# Altium schematic symbol library SCH - MCU - SI LABS - SI LABS EFR32FG23A010F128GM40 40-PIN QFN 5X5.SchLib: 1 symbol
Pins are listed as number, name and electrical type; pins without a type are passive.

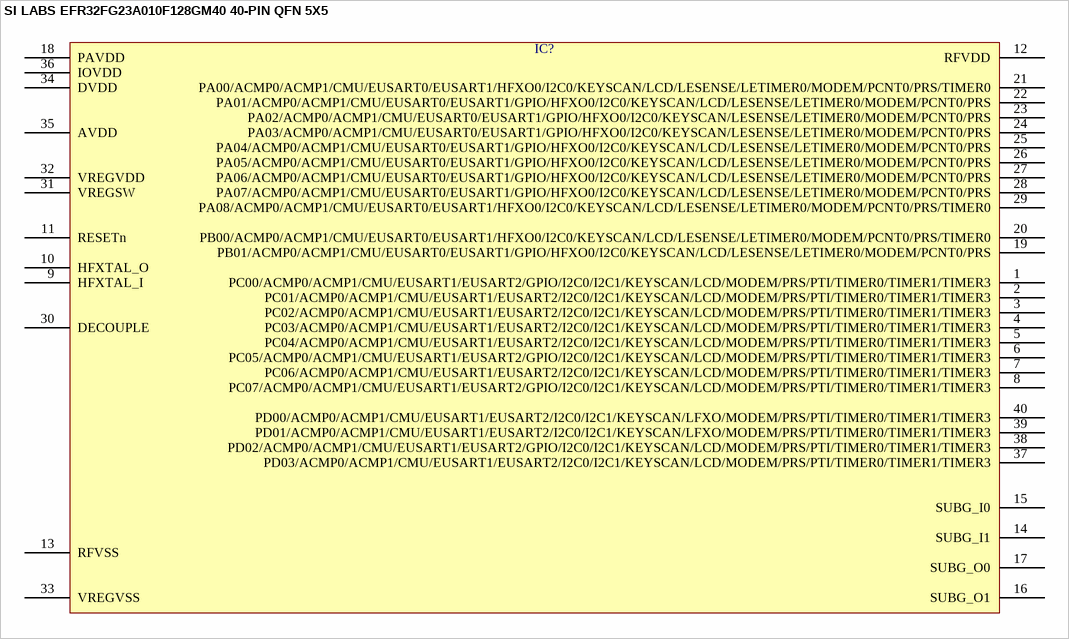
[diagram p0: symbol SI LABS EFR32FG23A010F128GM40 40-PIN QFN 5X5]

## SI LABS EFR32FG23A010F128GM40 40-PIN QFN 5X5
designator IC?  (value not drawn)
pins: 1 PC00/ACMP0/ACMP1/CMU/EUSART1/EUSART2/GPIO/I2C0/I2C1/KEYSCAN/LCD/MODEM/PRS/PTI/TIMER0/TIMER1/TIMER3, 2 PC01/ACMP0/ACMP1/CMU/EUSART1/EUSART2/I2C0/I2C1/KEYSCAN/LCD/MODEM/PRS/PTI/TIMER0/TIMER1/TIMER3, 3 PC02/ACMP0/ACMP1/CMU/EUSART1/EUSART2/I2C0/I2C1/KEYSCAN/LCD/MODEM/PRS/PTI/TIMER0/TIMER1/TIMER3, 4 PC03/ACMP0/ACMP1/CMU/EUSART1/EUSART2/I2C0/I2C1/KEYSCAN/LCD/MODEM/PRS/PTI/TIMER0/TIMER1/TIMER3, 5 PC04/ACMP0/ACMP1/CMU/EUSART1/EUSART2/I2C0/I2C1/KEYSCAN/LCD/MODEM/PRS/PTI/TIMER0/TIMER1/TIMER3, 6 PC05/ACMP0/ACMP1/CMU/EUSART1/EUSART2/GPIO/I2C0/I2C1/KEYSCAN/LCD/MODEM/PRS/PTI/TIMER0/TIMER1/TIMER3, 7 PC06/ACMP0/ACMP1/CMU/EUSART1/EUSART2/I2C0/I2C1/KEYSCAN/LCD/MODEM/PRS/PTI/TIMER0/TIMER1/TIMER3, 8 PC07/ACMP0/ACMP1/CMU/EUSART1/EUSART2/GPIO/I2C0/I2C1/KEYSCAN/LCD/MODEM/PRS/PTI/TIMER0/TIMER1/TIMER3, 9 HFXTAL_I, 10 HFXTAL_O, 11 RESETn, 12 RFVDD, 13 RFVSS, 14 SUBG_I1, 15 SUBG_I0, 16 SUBG_O1, 17 SUBG_O0, 18 PAVDD, 19 PB01/ACMP0/ACMP1/CMU/EUSART0/EUSART1/GPIO/HFXO0/I2C0/KEYSCAN/LCD/LESENSE/LETIMER0/MODEM/PCNT0/PRS, 20 PB00/ACMP0/ACMP1/CMU/EUSART0/EUSART1/HFXO0/I2C0/KEYSCAN/LCD/LESENSE/LETIMER0/MODEM/PCNT0/PRS/TIMER0, 21 PA00/ACMP0/ACMP1/CMU/EUSART0/EUSART1/HFXO0/I2C0/KEYSCAN/LCD/LESENSE/LETIMER0/MODEM/PCNT0/PRS/TIMER0, 22 PA01/ACMP0/ACMP1/CMU/EUSART0/EUSART1/GPIO/HFXO0/I2C0/KEYSCAN/LCD/LESENSE/LETIMER0/MODEM/PCNT0/PRS, 23 PA02/ACMP0/ACMP1/CMU/EUSART0/EUSART1/GPIO/HFXO0/I2C0/KEYSCAN/LESENSE/LETIMER0/MODEM/PCNT0/PRS, 24 PA03/ACMP0/ACMP1/CMU/EUSART0/EUSART1/GPIO/HFXO0/I2C0/KEYSCAN/LESENSE/LETIMER0/MODEM/PCNT0/PRS, 25 PA04/ACMP0/ACMP1/CMU/EUSART0/EUSART1/GPIO/HFXO0/I2C0/KEYSCAN/LCD/LESENSE/LETIMER0/MODEM/PCNT0/PRS, 26 PA05/ACMP0/ACMP1/CMU/EUSART0/EUSART1/GPIO/HFXO0/I2C0/KEYSCAN/LCD/LESENSE/LETIMER0/MODEM/PCNT0/PRS, 27 PA06/ACMP0/ACMP1/CMU/EUSART0/EUSART1/GPIO/HFXO0/I2C0/KEYSCAN/LCD/LESENSE/LETIMER0/MODEM/PCNT0/PRS, 28 PA07/ACMP0/ACMP1/CMU/EUSART0/EUSART1/GPIO/HFXO0/I2C0/KEYSCAN/LCD/LESENSE/LETIMER0/MODEM/PCNT0/PRS, 29 PA08/ACMP0/ACMP1/CMU/EUSART0/EUSART1/HFXO0/I2C0/KEYSCAN/LCD/LESENSE/LETIMER0/MODEM/PCNT0/PRS/TIMER0, 30 DECOUPLE, 31 VREGSW, 32 VREGVDD, 33 VREGVSS, 34 DVDD, 35 AVDD, 36 IOVDD, 37 PD03/ACMP0/ACMP1/CMU/EUSART1/EUSART2/I2C0/I2C1/KEYSCAN/LCD/MODEM/PRS/PTI/TIMER0/TIMER1/TIMER3, 38 PD02/ACMP0/ACMP1/CMU/EUSART1/EUSART2/GPIO/I2C0/I2C1/KEYSCAN/LCD/MODEM/PRS/PTI/TIMER0/TIMER1/TIMER3, 39 PD01/ACMP0/ACMP1/CMU/EUSART1/EUSART2/I2C0/I2C1/KEYSCAN/LFXO/MODEM/PRS/PTI/TIMER0/TIMER1/TIMER3, 40 PD00/ACMP0/ACMP1/CMU/EUSART1/EUSART2/I2C0/I2C1/KEYSCAN/LFXO/MODEM/PRS/PTI/TIMER0/TIMER1/TIMER3